# EAGLE library part 53481 (library Molex)
0.635mm Pitch Board to Board S/T Plug Housing Assembly 20 pin
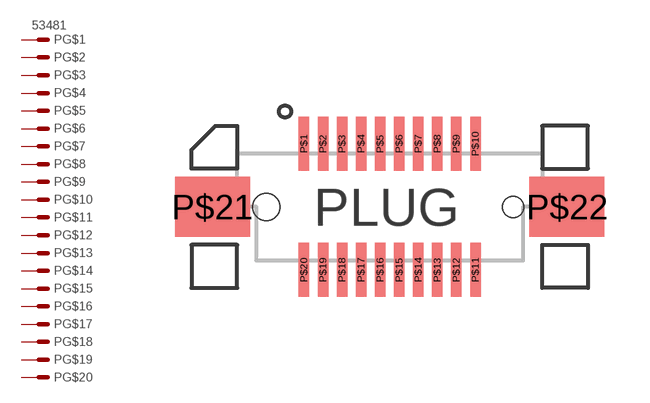
[diagram p6: symbol with the pads of 20PIN_PLUG; footprint 20PIN_PLUG]

Designator prefix P; gates G$1=MV G$2=M G$3=M G$4=M G$5=M G$6=M G$7=M G$8=M G$9=M G$10=M G$11=M G$12=M G$13=M G$14=M G$15=M G$16=M G$17=M G$18=M G$19=M G$20=M

## 53481-0279  [20PIN_PLUG]
P$1  G$1:S  pas
P$2  G$2:S  pas
P$3  G$3:S  pas
P$4  G$4:S  pas
P$5  G$5:S  pas
P$6  G$6:S  pas
P$7  G$7:S  pas
P$8  G$8:S  pas
P$9  G$9:S  pas
P$10  G$10:S  pas
P$11  G$11:S  pas
P$12  G$12:S  pas
P$13  G$13:S  pas
P$14  G$14:S  pas
P$15  G$15:S  pas
P$16  G$16:S  pas
P$17  G$17:S  pas
P$18  G$18:S  pas
P$19  G$19:S  pas
P$20  G$20:S  pas

## Footprint 20PIN_PLUG (pad centres in mm)
smd 0.35 x 1.8: P$1 -2.857,2.1; P$2 -2.223,2.1; P$3 -1.587,2.1; P$4 -0.953,2.1; P$5 -0.318,2.1; P$6 0.318,2.1; P$7 0.953,2.1; P$8 1.587,2.1; P$9 2.223,2.1; P$10 2.857,2.1; P$11 2.857,-2.1; P$12 2.223,-2.1; P$13 1.587,-2.1; P$14 0.953,-2.1; P$15 0.318,-2.1; P$16 -0.318,-2.1; P$17 -0.953,-2.1; P$18 -1.587,-2.1; P$19 -2.223,-2.1; P$20 -2.857,-2.1
smd 2.5 x 2: P$21 -5.91,0; P$22 5.91,0
hole 0.9 at -4.11,0
hole 0.7 at 4.11,0